# Altium footprint library LED.PcbLib: 5 footprints
Each footprint in its own frame and in the unit in brackets; x right, y up, seen from the top. Pads: shape width x height; smd on the part's side, far side on the other; paste and mask are expansions set on the pad; w line width, h text height; cw(c..) or ccw(c..) is an arc to the next point about the centre after c.
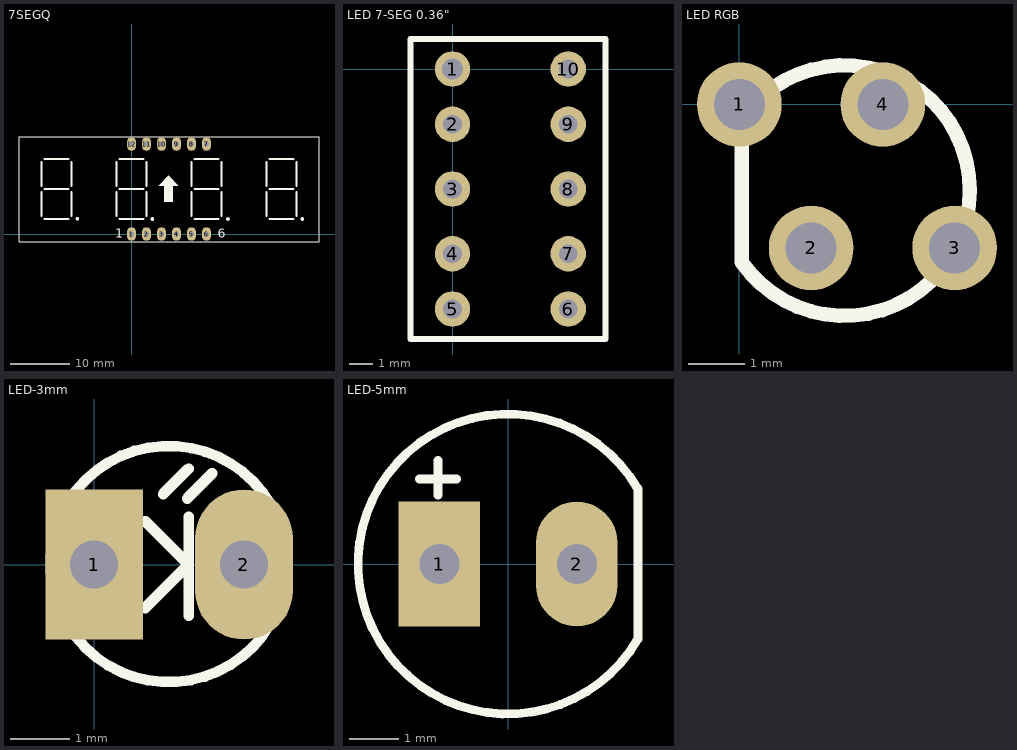
[diagram p0: the footprints below, top view; thin cyan lines are the x and y axes]

## 7SEGQ [mil] "DIP 12 Leads; Body 48 x 20 mm; Pitch 0.5 mm"
height 300
pads (12):
  oval 60x90 hole 31: 1(0,0) 2(100,0) 3(200,0) 4(300,0) 5(400,0) 6(500,0) 7(500,600) 8(400,600) 9(300,600) 10(200,600) 11(100,600) 12(0,600)
Top Overlay:
  drawing of 155 lines, arcs and shapes, not listed
  text "6" at 575,-26 h60
  text "1" at -108,-24 h60
3D body "SOCKET6.stp": height 276.19, standoff -117.51, extent -50,550 550,650
3D body "SOCKET6.stp": height 276.19, standoff -117.51, extent -50,-44.99 550,55.01
3D body "7seg2-4.STEP": height 564.96, standoff 112.2, extent -720.16,-80 1260.16,668.03

## LED 7-SEG 0.36" [mm] "0.36\" Single 7-seg"
pads (10):
  round 1.5 hole 0.9: 1(0,0)
  round 1.5 hole 0.8: 2(0,-2.34) 3(0,-5.08) 4(0,-7.82) 5(0,-10.16) 6(4.9,-10.16) 7(4.9,-7.82) 8(4.9,-5.08) 9(4.9,-2.34) 10(4.9,0)
Top Overlay:
  lines w0.254: -1.778,-11.43 -1.778,1.27 6.477,1.27 6.477,-11.43 -1.778,-11.43

## LED RGB [mm]
pads (4):
  round 1.5 hole 0.9: 1(0,0) 2(1.27,-2.54) 3(3.81,-2.54) 4(2.54,0)
Top Overlay:
  lines w0.254: 0.042,-2.794 ccw(c1.861,-1.524) 0.042,-0.254 0.042,-2.794

## LED-3mm [mil] "LED 2 PIN, 3ly Only colour"
height 300
pads (2):
  rect 65x100 hole 32: 1(0,0)
  oval 65x100 hole 32: 2(100,0)
Top Overlay:
  lines w7: 34,-29 63,0 34,29 ; 46,47 63,64 ; 62,44 79,61 ; 63,-34 63,32 ; 117.92,-39.35 117.92,39.84
  lines w7.01: 117.57,-39.74 cw(c49.8,0.35) 117.72,40.19
3D body "SW3DPS-LED DIP 3MM-DEFAULT.STEP": height 217.14, standoff -117.51, extent -24.8,-74.81 112.99,74.8

## LED-5mm [mil] "LED 2 PIN, 5 ly , Only colour, pin to pin 110mil"
height 300
pads (2):
  rect 65x100 hole 32: 1(-55,0)
  oval 65x100 hole 32: 2(55,0)
Top Overlay:
  lines w7: -71,68 -41,68 ; -56,55 -56,83 ; 103.51,60.71 ccw(c0,0) 103.94,-59.97 ; 104,-59 104,60
3D body "User Library-LEDd5B.STEP": height 339.18, standoff -243.49, extent -113.31,-120.49 100.08,116.5